# EAGLE library part PIC32MX440F*L (library Microchip)
PIC32 100-Pin USB 32-Bit Flash Microcontroller
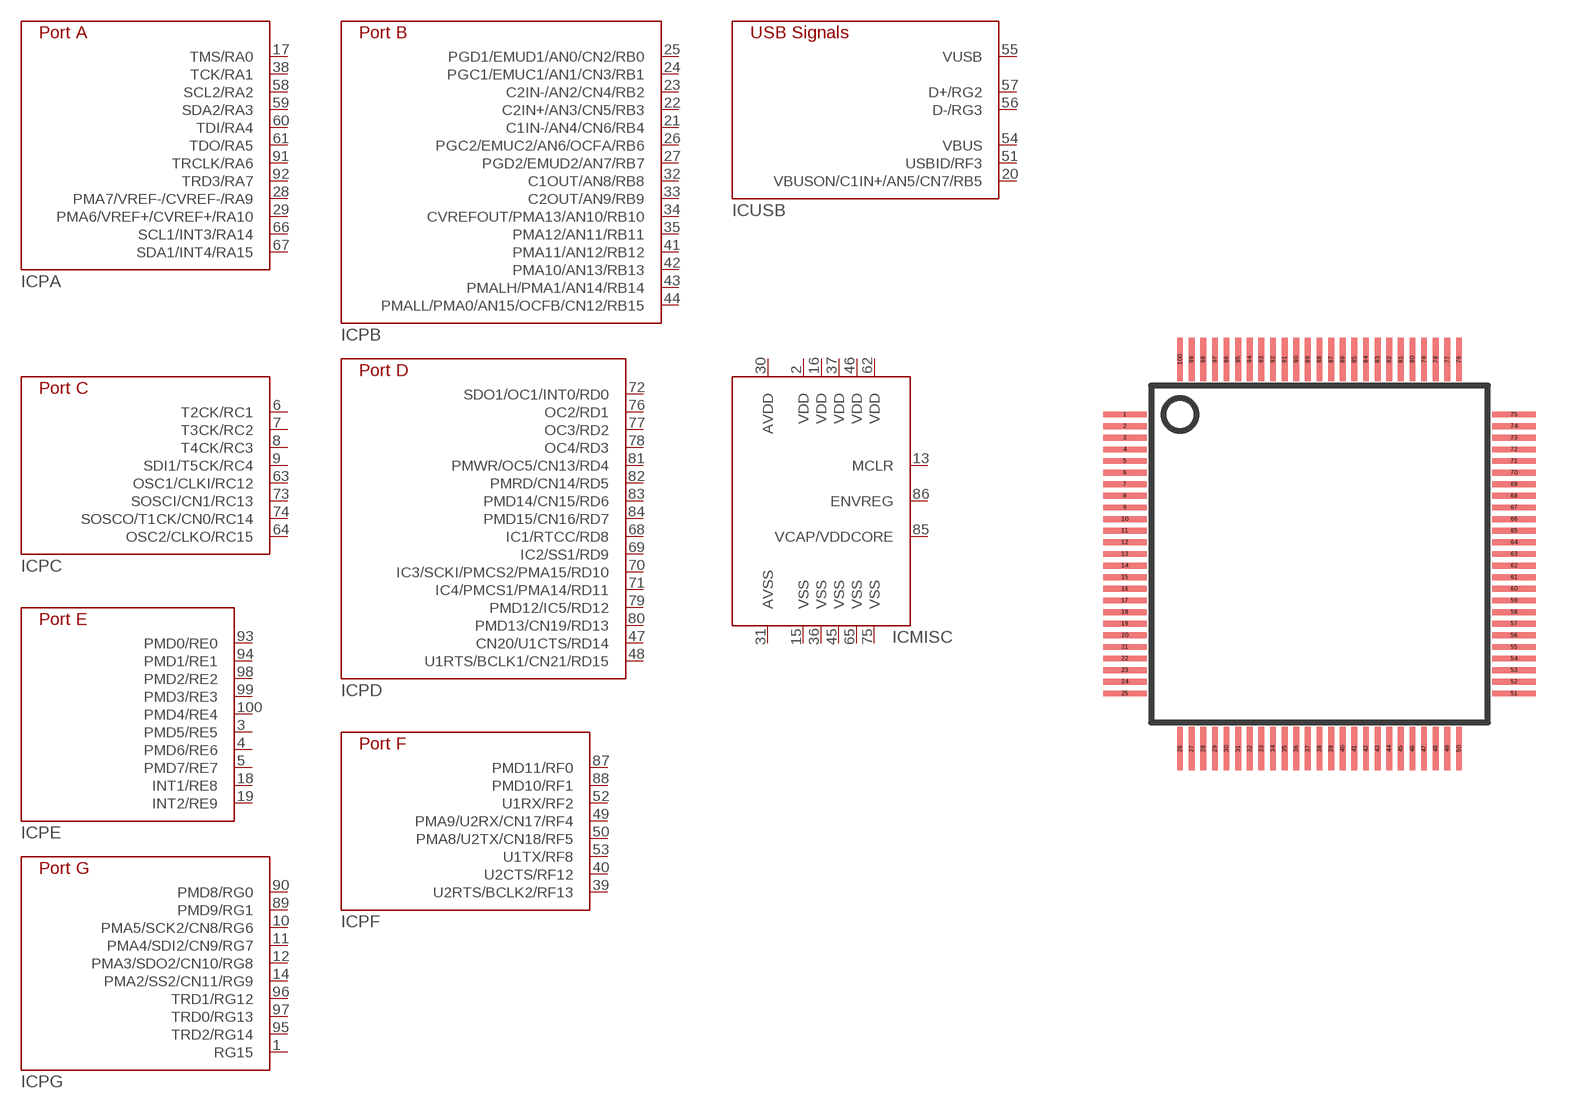
[diagram p16: symbol with the pads of TQ100-PT; footprint TQ100-PT]

Designator prefix IC; gates PA=PIC32MX4XXL-PA PB=PIC32MX4XXL-PB PC=PIC32MX4XXL-PC PD=PIC32MX4XXL-PD PE=PIC32MX4XXL-PE PF=PIC32MX4XXL-PF PG=PIC32MX4XXL-PG USB=PIC32MX4XXL-USB MISC=PIC32MX4XXL-MISC

## PIC32MX440F128L-PT  [TQ100-PT]
1  PG:RG15
2  MISC:VDD
3  PE:PMD5/RE5
4  PE:PMD6/RE6
5  PE:PMD7/RE7
6  PC:T2CK/RC1
7  PC:T3CK/RC2
8  PC:T4CK/RC3
9  PC:SDI1/T5CK/RC4
10  PG:PMA5/SCK2/CN8/RG6
11  PG:PMA4/SDI2/CN9/RG7
12  PG:PMA3/SDO2/CN10/RG8
13  MISC:MCLR
14  PG:PMA2/SS2/CN11/RG9
15  MISC:VSS
16  MISC:VDD
17  PA:TMS/RA0
18  PE:INT1/RE8
19  PE:INT2/RE9
20  USB:VBUSON/C1IN+/AN5/CN7/RB5
21  PB:C1IN-/AN4/CN6/RB4
22  PB:C2IN+/AN3/CN5/RB3
23  PB:C2IN-/AN2/CN4/RB2
24  PB:PGC1/EMUC1/AN1/CN3/RB1
25  PB:PGD1/EMUD1/AN0/CN2/RB0
26  PB:PGC2/EMUC2/AN6/OCFA/RB6
27  PB:PGD2/EMUD2/AN7/RB7
28  PA:PMA7/VREF-/CVREF-/RA9
29  PA:PMA6/VREF+/CVREF+/RA10
30  MISC:AVDD
31  MISC:AVSS
32  PB:C1OUT/AN8/RB8
33  PB:C2OUT/AN9/RB9
34  PB:CVREFOUT/PMA13/AN10/RB10
35  PB:PMA12/AN11/RB11
36  MISC:VSS
37  MISC:VDD
38  PA:TCK/RA1
39  PF:U2RTS/BCLK2/RF13
40  PF:U2CTS/RF12
41  PB:PMA11/AN12/RB12
42  PB:PMA10/AN13/RB13
43  PB:PMALH/PMA1/AN14/RB14
44  PB:PMALL/PMA0/AN15/OCFB/CN12/RB15
45  MISC:VSS
46  MISC:VDD
47  PD:CN20/U1CTS/RD14
48  PD:U1RTS/BCLK1/CN21/RD15
49  PF:PMA9/U2RX/CN17/RF4
50  PF:PMA8/U2TX/CN18/RF5
51  USB:USBID/RF3
52  PF:U1RX/RF2
53  PF:U1TX/RF8
54  USB:VBUS
55  USB:VUSB
56  USB:D-/RG3
57  USB:D+/RG2
58  PA:SCL2/RA2
59  PA:SDA2/RA3
60  PA:TDI/RA4
61  PA:TDO/RA5
62  MISC:VDD
63  PC:OSC1/CLKI/RC12
64  PC:OSC2/CLKO/RC15
65  MISC:VSS
66  PA:SCL1/INT3/RA14
67  PA:SDA1/INT4/RA15
68  PD:IC1/RTCC/RD8
69  PD:IC2/SS1/RD9
70  PD:IC3/SCKI/PMCS2/PMA15/RD10
71  PD:IC4/PMCS1/PMA14/RD11
72  PD:SDO1/OC1/INT0/RD0
73  PC:SOSCI/CN1/RC13
74  PC:SOSCO/T1CK/CN0/RC14
75  MISC:VSS
76  PD:OC2/RD1
77  PD:OC3/RD2
78  PD:OC4/RD3
79  PD:PMD12/IC5/RD12
80  PD:PMD13/CN19/RD13
81  PD:PMWR/OC5/CN13/RD4
82  PD:PMRD/CN14/RD5
83  PD:PMD14/CN15/RD6
84  PD:PMD15/CN16/RD7
85  MISC:VCAP/VDDCORE
86  MISC:ENVREG
87  PF:PMD11/RF0
88  PF:PMD10/RF1
89  PG:PMD9/RG1
90  PG:PMD8/RG0
91  PA:TRCLK/RA6
92  PA:TRD3/RA7
93  PE:PMD0/RE0
94  PE:PMD1/RE1
95  PG:TRD2/RG14
96  PG:TRD1/RG12
97  PG:TRD0/RG13
98  PE:PMD2/RE2
99  PE:PMD3/RE3
100  PE:PMD4/RE4

## Footprint TQ100-PT (pad centres in mm)
TQFP 100 pin, 0.4mm pitch, 25x25
smd 1.5 x 0.2: 1 -6.7,4.8; 2 -6.7,4.4; 3 -6.7,4; 4 -6.7,3.6; 5 -6.7,3.2; 6 -6.7,2.8; 7 -6.7,2.4; 8 -6.7,2; 9 -6.7,1.6; 10 -6.7,1.2; 11 -6.7,0.8; 12 -6.7,0.4; 13 -6.7,0; 14 -6.7,-0.4; 15 -6.7,-0.8; 16 -6.7,-1.2; 17 -6.7,-1.6; 18 -6.7,-2; 19 -6.7,-2.4; 20 -6.7,-2.8; 21 -6.7,-3.2; 22 -6.7,-3.6; 23 -6.7,-4; 24 -6.7,-4.4; 25 -6.7,-4.8; 51 6.7,-4.8; 52 6.7,-4.4; 53 6.7,-4; 54 6.7,-3.6; 55 6.7,-3.2; 56 6.7,-2.8; 57 6.7,-2.4; 58 6.7,-2; 59 6.7,-1.6; 60 6.7,-1.2; 61 6.7,-0.8; 62 6.7,-0.4; 63 6.7,0; 64 6.7,0.4; 65 6.7,0.8; 66 6.7,1.2; 67 6.7,1.6; 68 6.7,2; 69 6.7,2.4; 70 6.7,2.8; 71 6.7,3.2; 72 6.7,3.6; 73 6.7,4; 74 6.7,4.4; 75 6.7,4.8
smd 0.2 x 1.5: 26 -4.8,-6.7; 27 -4.4,-6.7; 28 -4,-6.7; 29 -3.6,-6.7; 30 -3.2,-6.7; 31 -2.8,-6.7; 32 -2.4,-6.7; 33 -2,-6.7; 34 -1.6,-6.7; 35 -1.2,-6.7; 36 -0.8,-6.7; 37 -0.4,-6.7; 38 0,-6.7; 39 0.4,-6.7; 40 0.8,-6.7; 41 1.2,-6.7; 42 1.6,-6.7; 43 2,-6.7; 44 2.4,-6.7; 45 2.8,-6.7; 46 3.2,-6.7; 47 3.6,-6.7; 48 4,-6.7; 49 4.4,-6.7; 50 4.8,-6.7; 76 4.8,6.7; 77 4.4,6.7; 78 4,6.7; 79 3.6,6.7; 80 3.2,6.7; 81 2.8,6.7; 82 2.4,6.7; 83 2,6.7; 84 1.6,6.7; 85 1.2,6.7; 86 0.8,6.7; 87 0.4,6.7; 88 0,6.7; 89 -0.4,6.7; 90 -0.8,6.7; 91 -1.2,6.7; 92 -1.6,6.7; 93 -2,6.7; 94 -2.4,6.7; 95 -2.8,6.7; 96 -3.2,6.7; 97 -3.6,6.7; 98 -4,6.7; 99 -4.4,6.7; 100 -4.8,6.7